# Altium schematic symbol library FTSH-107-01-L-DV.Schlib: 1 symbol
Pins are listed as number, name and electrical type; pins without a type are passive.

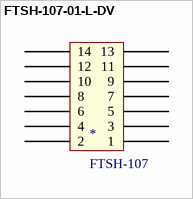
[diagram p0: symbol FTSH-107-01-L-DV]

## FTSH-107-01-L-DV
designator *, comment FTSH-107
CONN HDR SM FTSH-107 14POS DUAL .05"
pins: 1, 2, 3, 4, 5, 6, 7, 8, 9, 10, 11, 12, 13, 14